# Altium footprint library ESP32_WROOM_32UE.PcbLib: 1 footprints
Each footprint in its own frame and in the unit in brackets; x right, y up, seen from the top. Pads: shape width x height; smd on the part's side, far side on the other; paste and mask are expansions set on the pad; w line width, h text height; cw(c..) or ccw(c..) is an arc to the next point about the centre after c.
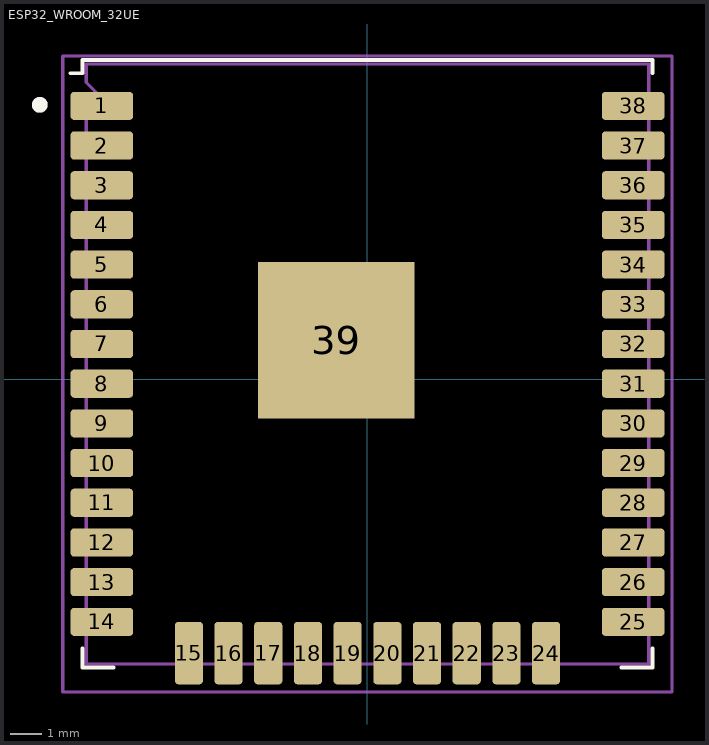
[diagram p0: the footprint, top view; thin cyan lines are the x and y axes]

## ESP32_WROOM_32UE [mm] "ESP32_WROOM_32UE"
pads (39):
  rrect25% 2x0.9 smd paste+0 mask+0.102: 1(-8.5,8.755) 2(-8.5,7.485) 3(-8.5,6.215) 4(-8.5,4.945) 5(-8.5,3.675) 6(-8.5,2.405) 7(-8.5,1.135) 8(-8.5,-0.135) 9(-8.5,-1.405) 10(-8.5,-2.675) 11(-8.5,-3.945) 12(-8.5,-5.215) 13(-8.5,-6.485) 14(-8.5,-7.755) 25(8.5,-7.755) 26(8.5,-6.485) 27(8.5,-5.215) 28(8.5,-3.945) 29(8.5,-2.675) 30(8.5,-1.405) 31(8.5,-0.135) 32(8.5,1.135) 33(8.5,2.405) 34(8.5,3.675) 35(8.5,4.945) 36(8.5,6.215) 37(8.5,7.485) 38(8.5,8.755)
  rrect25% 0.9x2 smd paste+0 mask+0.102: 15(-5.715,-8.755) 16(-4.445,-8.755) 17(-3.175,-8.755) 18(-1.905,-8.755) 19(-0.635,-8.755) 20(0.635,-8.755) 21(1.905,-8.755) 22(3.175,-8.755) 23(4.445,-8.755) 24(5.715,-8.755)
  rect 5x5 smd paste+0 mask+0.102: 39(-1,1.255)
Top Overlay:
  circle w0.25: c-10.484,8.787 r0.125
  lines w0.12: -9.5,9.8 -9.12,9.8 -9.12,10.22 9.12,10.22 9.12,9.8 ; -9.12,-8.6 -9.12,-9.22 -8.12,-9.22 ; 8.12,-9.22 9.12,-9.22 9.12,-8.6
Mechanical 1:
  circle w0.25: c-10.487,8.787 r0.125
  lines w0.1: -9.75,-10 -9.75,10.35 9.75,10.35 9.75,-10 -9.75,-10 ; -9,-9.1 9,-9.1 9,10.1 -9,10.1 -9,9.5 -8.5,9 -9,8.5 -9,-9.1
  text ".Designator" at 0,0.565 h3
Top Courtyard:
  text "+" at -0.846,-1.27 h2.54
3D body "UNK_Espressif_Systems_ESP32-WROOM-32U_16MB_eec.STEP": height 3.35, standoff 0, extent -9,-9.1 9,10.1